# Altium footprint library MyPCB_Library.PcbLib: 24 footprints (part 1 of 2)
Each footprint in its own frame and in the unit in brackets; x right, y up, seen from the top. Pads: shape width x height; smd on the part's side, far side on the other; paste and mask are expansions set on the pad; w line width, h text height; cw(c..) or ccw(c..) is an arc to the next point about the centre after c.
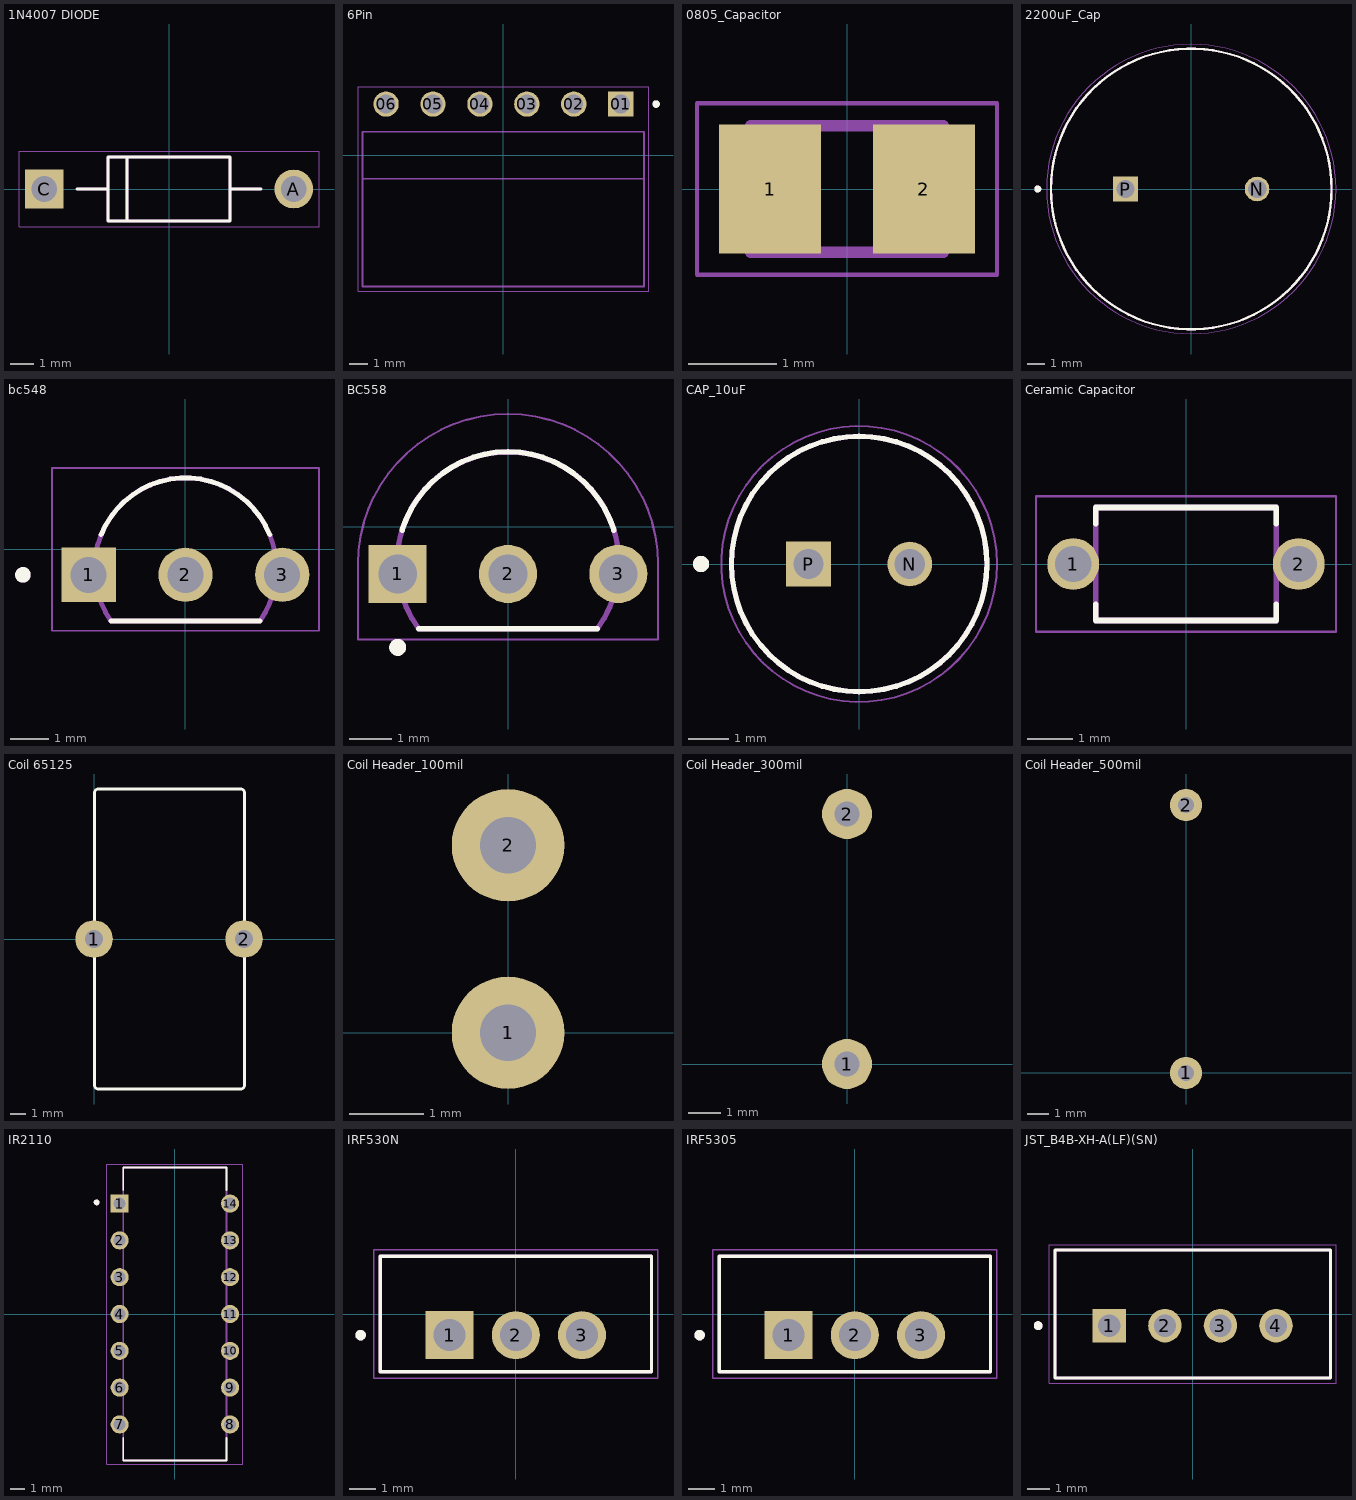
[diagram p0: the footprints below, top view; thin cyan lines are the x and y axes]

## 1N4007 DIODE [mm]
pads (2):
  round 1.65 hole 1.1: A(5.3,0)
  rect 1.65x1.65 / inner round 1.65 / far side rect 1.65x1.65 hole 1.1: C(-5.3,0)
Top Overlay:
  lines w0.127: -3.9,0 -2.6,0 ; 3.9,0 2.6,0 ; -2.6,0 -2.6,1.35 -1.775,1.35 ; -2.6,0 -2.6,-1.35 -1.775,-1.35 ; -1.775,-1.35 2.6,-1.35 2.6,0 ; -1.775,-1.35 -1.775,1.35 ; -1.775,1.35 2.6,1.35 2.6,0
Mechanical 13:
  lines w0.127: -3.9,0 -2.6,0 ; 3.9,0 2.6,0 ; -2.6,0 -2.6,1.35 -1.775,1.35 ; -2.6,0 -2.6,-1.35 -1.775,-1.35 ; -1.775,-1.35 2.6,-1.35 2.6,0 ; -1.775,-1.35 -1.775,1.35 ; -1.775,1.35 2.6,1.35 2.6,0
Mechanical 15:
  lines w0.05: -6.375,-1.6 6.375,-1.6 6.375,1.6 -6.375,1.6 -6.375,-1.6
3D body "step_temp.STEP": height 2, standoff -22.86, extent -4.242,-1 4.242,1

## 6Pin [mm]
pads (6):
  rect 1.37x1.37 / inner round 1.37 / far side rect 1.37x1.37 hole 1.02: 01(6.35,2.77)
  round 1.37 hole 1.02: 02(3.81,2.77) 03(1.27,2.77) 04(-1.27,2.77) 05(-3.81,2.77) 06(-6.35,2.77)
Top Overlay:
  circle w0.2: c8.27,2.77 r0.1
Mechanical 13:
  circle w0.2: c8.27,2.77 r0.1
  lines w0.1: -7.62,-1.27 -7.62,-7.11 7.62,-7.11 7.62,-1.27 ; -7.62,-1.27 7.62,-1.27 ; -7.62,-1.27 -7.62,1.27 7.62,1.27 7.62,-1.27
Mechanical 15:
  lines w0.05: -7.87,-7.36 7.87,-7.36 7.87,3.705 -7.87,3.705 -7.87,-7.36

## 0805_Capacitor [mm]
pads (2):
  rect 1.16x1.47 smd: 1(-0.875,0) 2(0.875,0)
Mechanical 13:
  lines w0.127: -1.1,-0.72 -1.1,0.72 1.1,0.72 1.1,-0.72 -1.1,-0.72
Mechanical 15:
  lines w0.05: -1.708,-0.975 -1.708,0.975 1.708,0.975 1.708,-0.975 -1.708,-0.975
3D body "C0805C105K4RACAUTO.STEP": height 1.27, standoff 0, extent -1.016,-0.635 1.016,0.762

## 2200uF_Cap [mm]
pads (2):
  round 1.4 hole 1.05: N(3.75,0)
  rect 1.4x1.4 hole 1.05: P(-3.75,0)
Top Overlay:
  circle w0.127: c0,0 r8
  circle w0.2: c-8.75,0 r0.1
Mechanical 13:
  circle w0.127: c0,0 r8
  circle w0.2: c-8.75,0 r0.1
Mechanical 15:
  circle w0.05: c0,0 r8.25
3D body "step_temp.STEP": height 31.5, standoff -17, extent -8,-7.999 8,7.999

## bc548 [mm]
pads (3):
  rect 1.4x1.4 hole 0.93: 1(-2.5,-0.655)
  round 1.4 hole 0.93: 2(0,-0.655) 3(2.5,-0.655)
Top Overlay:
  circle w0.2: c-4.2,-0.655 r0.1
  lines w0.127: -2.179,0.38 cw(c0,-0.5) 2.179,0.38 ; -1.924,-1.85 1.924,-1.85 -1.924,-1.85
Mechanical 13:
  circle w0.2: c-4.2,-0.655 r0.1
  lines w0.127: -1.925,-1.848 cw(c0,-0.5) 1.925,-1.848 ; -1.924,-1.85 1.924,-1.85
Mechanical 15:
  lines w0.05: -3.45,-2.1 3.45,-2.1 3.45,2.1 -3.45,2.1 -3.45,-2.1
3D body "step_temp.STEP": height 7.74, standoff -1.66, extent -2.399,-1.533 2.399,2.4

## BC558 [mm]
height 9.33
pads (3):
  rect 1.37x1.37 / inner round 1.37 / far side rect 1.37x1.37 hole 0.91: 1(-2.6,-1.112)
  round 1.37 hole 0.91: 2(0,-1.112) 3(2.6,-1.112)
Top Overlay:
  circle w0.2: c-2.6,-2.843 r0.1
  lines w0.127: -2.493,-0.078 cw(c0,-0.841) 2.493,-0.078 ; -2.102,-2.408 2.102,-2.408
Mechanical 13:
  circle w0.2: c-2.6,-2.843 r0.1
  lines w0.127: -2.115,-2.39 cw(c0,-0.853) 2.115,-2.39 ; -2.102,-2.408 2.102,-2.408
Mechanical 15:
  lines w0.05: -3.535,-2.66 -3.535,-0.878 cw(c0,-0.878) 3.535,-0.878 3.535,-2.66 -3.535,-2.66
3D body "transistor.stp.STEP": height 6.98, standoff -1.18, extent -2.82,-2.408 2.82,1.393

## CAP_10uF [mm]
pads (2):
  round 1.1 hole 0.75: N(1.25,0)
  rect 1.1x1.1 hole 0.75: P(-1.25,0)
Top Overlay:
  circle w0.2: c-3.9,0 r0.1
  circle w0.127: c0,0 r3.15
Mechanical 13:
  circle w0.2: c-3.9,0 r0.1
  circle w0.127: c0,0 r3.15
Mechanical 15:
  circle w0.05: c0,0 r3.4
3D body "step_temp.STEP": height 11.2, standoff -17, extent -3.15,-3.149 3.15,3.149

## Ceramic Capacitor [mm] "22pF"
pads (2):
  round 1.15 hole 0.8: 1(-2.5,0) 2(2.5,0)
Top Overlay:
  lines w0.127: -2,-0.895 -2,-1.25 2,-1.25 2,-0.895 ; -2,0.895 -2,1.25 2,1.25 2,0.895
Mechanical 13:
  lines w0.127: -2,-1.25 2,-1.25 2,1.25 -2,1.25 -2,-1.25
Mechanical 15:
  lines w0.05: -3.325,-1.5 3.325,-1.5 3.325,1.5 -3.325,1.5 -3.325,-1.5
3D body "step_temp.STEP": height 5.5, standoff -9, extent -2.75,-1.25 2.75,1.25

## Coil 65125 [mm]
pads (2):
  round 2.5 hole 1.2: 1(0,0) 2(10,0)
Top Overlay:
  lines w0.18: 0.033,-9.746 ccw(c0.287,-9.746) 0.287,-10 9.779,-10 ccw(c9.779,-9.746) 10.033,-9.746 10.033,9.746 ccw(c9.779,9.746) 9.779,10 0.287,10 ccw(c0.287,9.746) 0.033,9.746 0.033,-9.746

## Coil Header_100mil [mil]
pads (2):
  round 60 hole 30: 1(0,0) 2(0,100)

## Coil Header_300mil [mil]
pads (2):
  round 60 hole 30: 1(0,0) 2(0,300)

## Coil Header_500mil [mil]
pads (2):
  round 60 hole 30: 1(0,0) 2(0,500)

## IR2110 [mm]
pads (14):
  rect 1.25x1.25 / inner round 1.25 / far side rect 1.25x1.25 hole 0.83: 1(-3.81,7.62)
  round 1.25 hole 0.83: 2(-3.81,5.08) 3(-3.81,2.54) 4(-3.81,0) 5(-3.81,-2.54) 6(-3.81,-5.08) 7(-3.81,-7.62) 8(3.81,-7.62) 9(3.81,-5.08) 10(3.81,-2.54) 11(3.81,0) 12(3.81,2.54) 13(3.81,5.08) 14(3.81,7.62)
Top Overlay:
  circle w0.2: c-5.4,7.7 r0.1
  lines w0.127: -3.56,-8.557 -3.56,-10.1 3.56,-10.1 3.56,-8.557 ; -3.56,8.557 -3.56,10.1 3.56,10.1 3.56,8.557
Mechanical 13:
  circle w0.2: c-5.4,7.7 r0.1
  lines w0.127: -3.56,-10.1 3.56,-10.1 3.56,10.1 -3.56,10.1 -3.56,-10.1
Mechanical 15:
  lines w0.05: -4.69,-10.35 4.69,-10.35 4.69,10.35 -4.69,10.35 -4.69,-10.35
3D body "step_temp.STEP": height 5.33, standoff -4.06, extent -3.956,-9.652 3.956,9.652

## IRF530N [mm]
pads (3):
  rect 1.845x1.845 hole 1.23: 1(-2.54,-0.81)
  round 1.845 hole 1.23: 2(0,-0.81) 3(2.54,-0.81)
Top Overlay:
  circle w0.2: c-5.957,-0.81 r0.1
  lines w0.127: -5.208,-2.222 5.208,-2.222 5.208,2.222 -5.208,2.222 -5.208,-2.222
Mechanical 13:
  circle w0.2: c-5.957,-0.81 r0.1
  lines w0.127: -5.208,-2.222 5.208,-2.222 5.208,2.222 -5.208,2.222 -5.208,-2.222
Mechanical 15:
  lines w0.05: -5.457,-2.472 5.457,-2.472 5.457,2.472 -5.457,2.472 -5.457,-2.472
3D body "step_temp.STEP": height 19.3, standoff -10.03, extent -5.208,-2.222 5.206,2.222

## IRF5305 [mm]
pads (3):
  rect 1.845x1.845 / inner round 1.845 / far side rect 1.845x1.845 hole 1.23: 1(-2.54,-0.81)
  round 1.845 hole 1.23: 2(0,-0.81) 3(2.54,-0.81)
Top Overlay:
  circle w0.2: c-5.957,-0.81 r0.1
  lines w0.127: -5.208,-2.222 5.208,-2.222 5.208,2.222 -5.208,2.222 -5.208,-2.222
Mechanical 13:
  circle w0.2: c-5.957,-0.81 r0.1
  lines w0.127: -5.208,-2.222 5.208,-2.222 5.208,2.222 -5.208,2.222 -5.208,-2.222
Mechanical 15:
  lines w0.05: -5.457,-2.472 -5.457,2.472 5.457,2.472 5.457,-2.472 -5.457,-2.472
3D body "step_temp.STEP": height 19.3, standoff -10.03, extent -5.207,-2.222 5.207,2.222

## JST_B4B-XH-A(LF)(SN) [mm]
height 7
pads (4):
  rect 1.508x1.508 / inner round 1.508 / far side rect 1.508x1.508 hole 1: 1(-3.75,-0.525)
  round 1.508 hole 1: 2(-1.25,-0.525) 3(1.25,-0.525) 4(3.75,-0.525)
Top Overlay:
  circle w0.2: c-6.95,-0.525 r0.1
  lines w0.127: -6.2,-2.875 6.2,-2.875 6.2,2.875 -6.2,2.875 -6.2,-2.875
Mechanical 13:
  circle w0.2: c-6.95,-0.525 r0.1
  lines w0.127: -6.2,-2.875 6.2,-2.875 6.2,2.875 -6.2,2.875 -6.2,-2.875
Mechanical 15:
  lines w0.05: -6.45,-3.125 -6.45,3.125 6.45,3.125 6.45,-3.125 -6.45,-3.125
3D body "step_temp.STEP": height 7, standoff -3.4, extent -6.2,-2.875 6.2,2.875